# Altium schematic symbol library mcp1502t-25e_chy.SchLib: 1 symbol
Pins are listed as number, name and electrical type; pins without a type are passive.

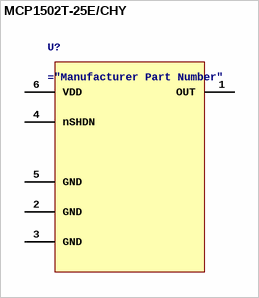
[diagram p0: symbol MCP1502T-25E/CHY]

## MCP1502T-25E/CHY
designator U?
IC 7 PPM 0.1% VOLTAGE REFERENCE Series Voltage Reference IC Fixed 2.5V V ±0.1% 20 mA SOT-23-6
pins: 1 OUT, 2 GND, 3 GND, 4 nSHDN, 5 GND, 6 VDD